# Altium footprint library Connector.PcbLib: 23 footprints (part 1 of 2)
Each footprint in its own frame and in the unit in brackets; x right, y up, seen from the top. Pads: shape width x height; smd on the part's side, far side on the other; paste and mask are expansions set on the pad; w line width, h text height; cw(c..) or ccw(c..) is an arc to the next point about the centre after c.
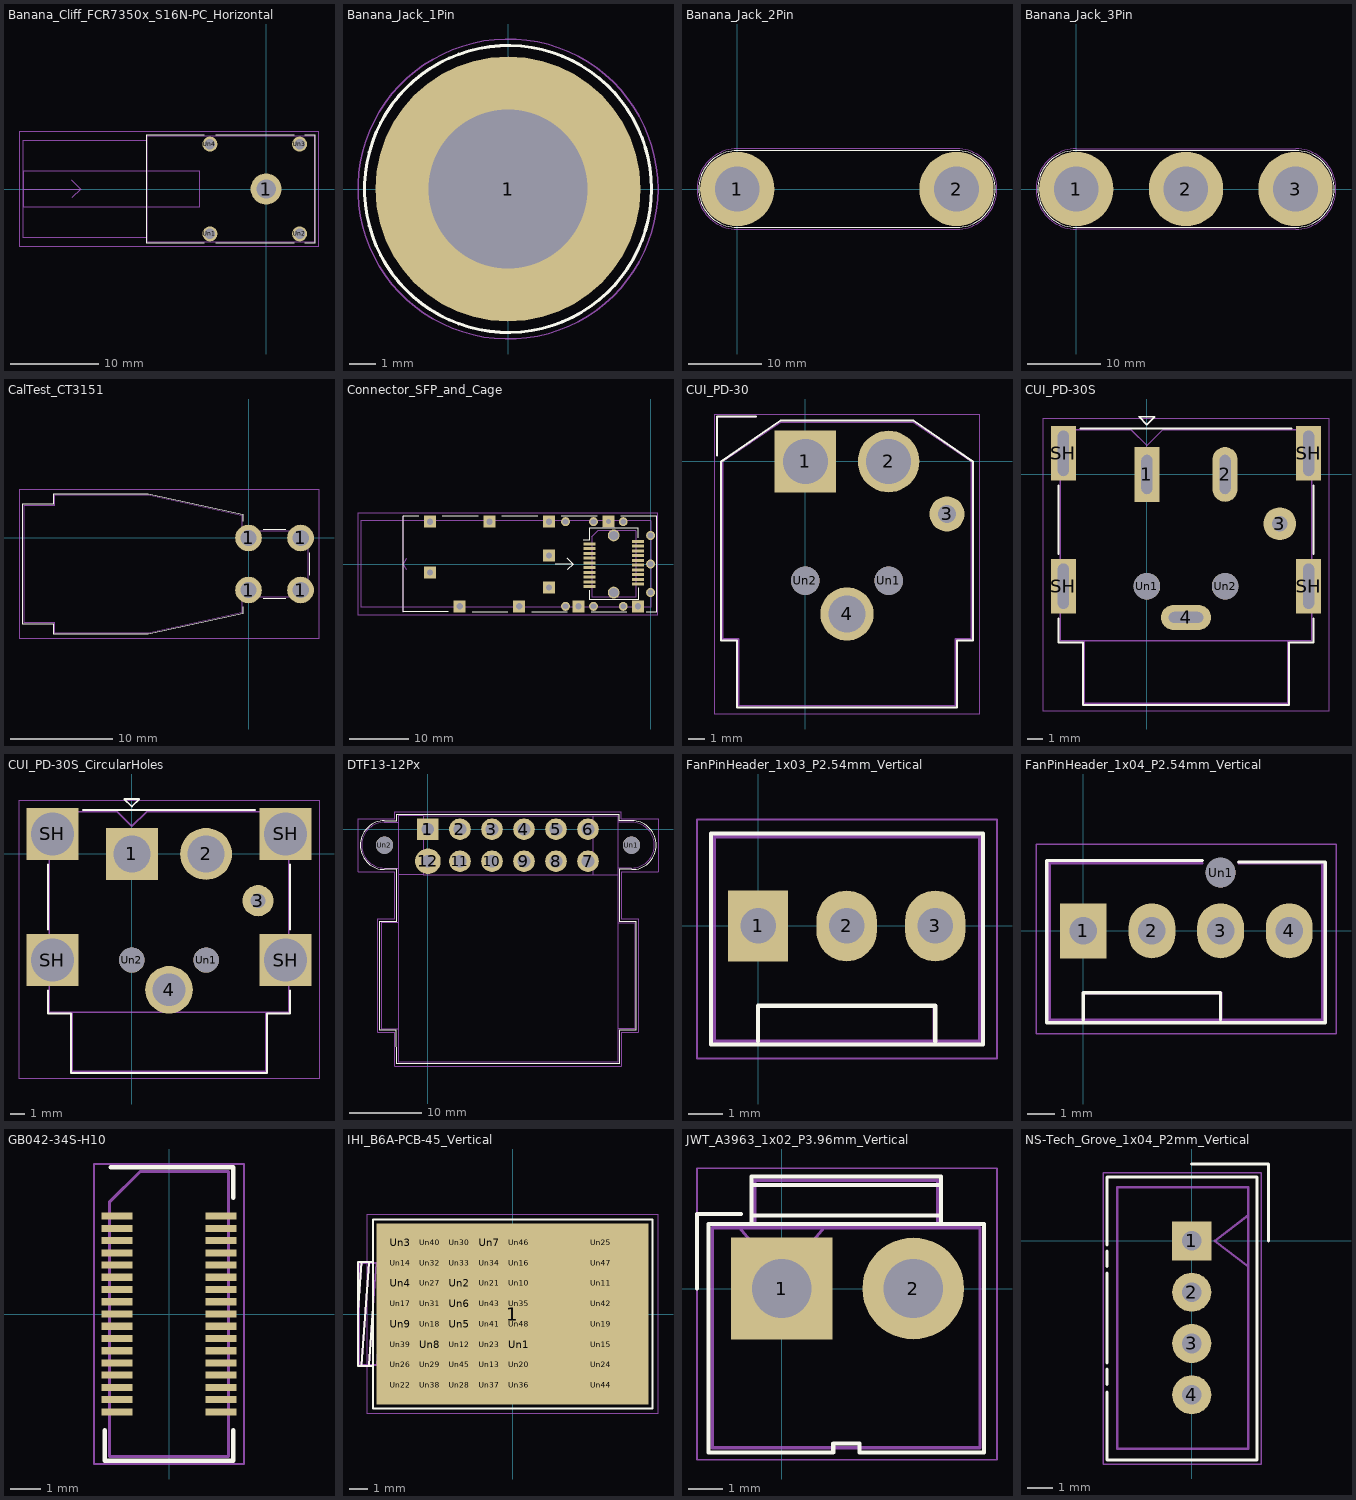
[diagram p0: the footprints below, top view; thin cyan lines are the x and y axes]

## Banana_Cliff_FCR7350x_S16N-PC_Horizontal [mm]
pads (5):
  round 3.5 hole 2.2: 1(0,0)
  round 1.7 hole 1.2: Un1(-6.36,-5.08) Un2(3.8,-5.08) Un3(3.8,5.08) Un4(-6.36,5.08)
F.SilkS:
  lines w0.12: -7,-6.1 -13.6,-6.1 -13.6,6.1 -7,6.1 ; -5.7,-6.1 3.2,-6.1 ; -5.7,6.1 3.2,6.1 ; 4.4,-6.1 5.6,-6.1 5.6,6.1 4.4,6.1
F.CrtYd:
  lines w0.05: -28,-6.5 -28,6.5 6,6.5 6,-6.5 -28,-6.5
F.Fab:
  lines w0.1: -27.5,0 -21,0 ; -22,-1 -21,0 ; -22,1 -21,0 ; -27.5,-5.5 -13.5,-5.5 -13.5,5.5 -27.5,5.5 -27.5,-5.5 ; -27.5,-2 -27.5,2 -7.5,2 -7.5,-2 -27.5,-2 ; -13.5,-6 -13.5,6 5.5,6 5.5,-6 -13.5,-6
  text "'.Designator'" at -4.047,-3.34 h1

## Banana_Jack_1Pin [mm]
pads (1):
  round 10.16 hole 6.1: 1(0,0)
F.SilkS:
  circle w0.12: c0,0 r5.5
F.CrtYd:
  circle w0.05: c0,0 r5.75
F.Fab:
  circle w0.1: c0,0 r4.85
  circle w0.1: c0,0 r2
  text "'.Designator'" at -3.237,-0.672 h0.8

## Banana_Jack_2Pin [mm]
pads (2):
  round 10.16 hole 6.1: 1(0,0) 2(29.97,0)
F.SilkS:
  lines w0.12: 0,-5.25 30,-5.25 ccw(c30,0) 30,5.25 0,5.25 ccw(c0,0) 0,-5.25
F.CrtYd:
  lines w0.05: 0,-5.5 30,-5.5 ccw(c30,0) 30,5.5 0,5.5 ccw(c0,0) 0,-5.5
F.Fab:
  circle w0.1: c0,0 r4.75
  circle w0.1: c0,0 r2
  circle w0.1: c30,0 r2
  circle w0.1: c30,0 r4.75
  text "'.Designator'" at 10.938,-0.84 h1

## Banana_Jack_3Pin [mm]
pads (3):
  round 10.16 hole 6.1: 1(0,0) 2(14.99,0) 3(29.97,0)
F.SilkS:
  lines w0.12: 0,-5.25 30,-5.25 ccw(c30,0) 30,5.25 0,5.25 ccw(c0,0) 0,-5.25
F.CrtYd:
  lines w0.05: 0,-5.5 30,-5.5 ccw(c30,0) 30,5.5 0,5.5 ccw(c0,0) 0,-5.5
F.Fab:
  circle w0.1: c15,0 r2
  circle w0.1: c30,0 r2
  circle w0.1: c0,0 r2
  circle w0.1: c30,0 r4.75
  circle w0.1: c0,0 r4.75
  circle w0.1: c15,0 r4.75
  text "'.Designator'" at 11.753,-0.672 h0.8

## CalTest_CT3151 [mm]
pads (4):
  round 2.6 hole 1.6: 1(0,-5.08) 1(0,0) 1(5.08,-5.08) 1(5.08,0)
F.SilkS:
  lines w0.12: -0.561,-6.703 -0.561,-7.41 -9.79,-9.41 -19.02,-9.41 -19.02,-8.41 -22.02,-8.41 -22.02,3.33 -19.02,3.33 -19.02,4.33 -9.79,4.33 -0.561,2.33 -0.561,1.623 ; 1.417,-5.92 3.653,-5.92 ; 1.417,0.84 3.652,0.84 ; 5.92,-3.656 5.92,-1.425
F.CrtYd:
  lines w0.05: -22.4,-9.79 6.88,-9.79 6.88,4.71 -22.4,4.71 -22.4,-9.79
F.Fab:
  lines w0.1: -21.9,-8.29 -21.9,3.21 -18.9,3.21 -18.9,4.21 -9.79,4.21 -0.68,2.21 -0.68,0.72 5.8,0.72 5.8,-5.8 -0.68,-5.8 -0.68,-7.29 -9.79,-9.29 -18.9,-9.29 -18.9,-8.29 -21.9,-8.29
  text "'.Designator'" at -1.507,-3.38 h1

## Connector_SFP_and_Cage [mm]
pads (42):
  rect 2x0.5 smd: 1(-10.3,3.4) 2(-10.3,2.6) 3(-10.3,1.8) 4(-10.3,1) 5(-10.3,0.2) 6(-10.3,-0.6) 7(-10.3,-1.4) 8(-10.3,-2.2) 9(-10.3,-3) 10(-10.3,-3.8) 11(-2.1,-3.4) 12(-2.1,-2.6) 13(-2.1,-1.8) 14(-2.1,-1) 15(-2.1,-0.2) 16(-2.1,0.6) 17(-2.1,1.4) 18(-2.1,2.2) 19(-2.1,3) 20(-2.1,3.8)
  rect 2x2 hole 1.05: CAGE(-37.1,-1.45) CAGE(-37.1,7.125) CAGE(-32.1,-7.125) CAGE(-27.1,7.125) CAGE(-22.1,-7.125) CAGE(-17.1,-3.95) CAGE(-17.1,1.45) CAGE(-17.1,7.125) CAGE(-12.1,-7.125) CAGE(-2.1,-7.125)
  round 1.5 hole 0.95: CAGE(-14.3,-7.125) CAGE(-14.3,7.125) CAGE(-9.6,-7.125) CAGE(-9.6,7.125) CAGE(-4.6,-7.125) CAGE(-4.6,7.125) CAGE(0,-4.8) CAGE(0,0) CAGE(0,4.8)
  rect 2x2 hole 0.85: CAGE(-7.1,7.125)
  round 2 hole 1.55: Un1(-6.2,-4.8) Un2(-6.2,4.8)
F.SilkS:
  lines w0.12: -39,8 -41.6,8 -41.6,-8 -34,-8 ; -35,8 -29,8 ; -30,-8 -24,-8 ; -25,8 -19,8 ; -20,-8 -14,-8 ; -16,0 -13,0 ; -15,8 -9,8 ; -14,-1 -13,0 ; -14,1 -13,0 ; -11.3,4 -10.3,4 -10.3,6 -2.1,6 -2.1,4.4 ; -10.3,-4.4 -10.3,-6 -2.1,-6 -2.1,-4 ; -10,-8 -4,-8 ; -5,8 1,8 1,-8 -0.7,-8
Dwgs.User:
  lines w0.12: -41.6,-8.125 -41.6,8.125 ; -41,-1 -41.6,0 -41,1
F.CrtYd:
  lines w0.05: -49.2,-8.63 -49.2,8.63 1.25,8.63 1.25,-8.63 -49.2,-8.63
F.Fab:
  lines w0.1: -48.7,-7.25 -48.7,7.25 0,7.25 0,-7.25 -48.7,-7.25 ; -9.9,-5.6 -2.5,-5.6 -2.5,5.6 -8.9,5.6 -9.9,4.6 -9.9,-5.6
  text "'.Designator'" at -10.247,-0.84 h1
Cmts.User:
  text "PCB edge" at -42.183,-3.447 h1
  text "Component and trace keepout" at -38.631,3.883 h1
  text "(except chassis ground)" at -36.329,2.088 h1

## CUI_PD-30 [mm]
pads (6):
  rect 3.7x3.7 hole 2.7: 1(0,0)
  round 3.7 hole 2.7: 2(5,0)
  round 2.1 hole 1.1: 3(8.5,-3.15)
  round 3.2 hole 2.2: 4(2.5,-9.15)
  round 1.7 hole 1.7: Un1(5,-7.15) Un2(0,-7.15)
F.SilkS:
  lines w0.12: -5.29,0.35 -5.29,2.69 -2.95,2.69 ; -5.05,-10.75 -5.05,0 -1.5,2.45 6.5,2.45 10.05,0 10.05,-10.75 9.1,-10.75 9.1,-14.75 -4.1,-14.75 -4.1,-10.75 -5.05,-10.75
F.CrtYd:
  lines w0.05: -5.45,-15.15 10.45,-15.15 10.45,2.85 -5.45,2.85 -5.45,-15.15
F.Fab:
  lines w0.1: -5.29,0.35 -5.29,2.69 -2.95,2.69 ; -4.95,-10.65 -4.95,0 -1.5,2.35 6.5,2.35 9.95,0 9.95,-10.65 9,-10.65 9,-14.65 -4,-14.65 -4,-10.65 -4.95,-10.65
  text "'.Designator'" at -1.547,-6.99 h1

## CUI_PD-30S [mm]
pads (10):
  rect 1.6x3.5 hole 2.5 slot 0.7 at 0 deg: 1(0,0)
  rrect100% 1.6x3.5 hole 2.5 slot 0.7 at 0 deg: 2(5,0)
  round 2.1 hole 1: 3(8.5,-3.15)
  rrect100% 3.2x1.6 hole 0.7 slot 2.2 at 0 deg: 4(2.5,-9.15)
  rect 1.6x3.5 hole 2.9 slot 0.7 at 0 deg: SH(-5.35,-7.15) SH(-5.35,1.35) SH(10.35,-7.15) SH(10.35,1.35)
  round 1.7 hole 1.7: Un1(0,-7.15) Un2(5,-7.15)
F.SilkS:
  lines w0.12: -5.65,-9.2 -5.65,-10.75 -4.1,-10.75 -4.1,-14.75 9.1,-14.75 9.1,-10.75 10.65,-10.75 10.65,-9.2 ; -5.65,-5.1 -5.65,-0.7 ; -4.25,2.95 9.25,2.95 ; 10.65,-5.1 10.65,-0.7 ; -0.5,3.69 0,3.19 0.5,3.69 -0.5,3.69
F.CrtYd:
  lines w0.05: -6.65,-15.15 -6.65,3.6 11.65,3.6 11.65,-15.15 -6.65,-15.15
F.Fab:
  lines w0.1: -4,-10.65 -5.55,-10.65 -5.55,2.85 -1,2.85 0,1.85 1,2.85 10.55,2.85 10.55,-10.65 9,-10.65 ; -4,-10.65 -4,-14.65 9,-14.65 9,-10.65 ; -4,-10.65 9,-10.65
  text "'.Designator'" at -1.547,-6.74 h1

## CUI_PD-30S_CircularHoles [mm]
pads (10):
  rect 3.5x3.5 hole 2.5: 1(0,0)
  round 3.5 hole 2.5: 2(5,0)
  round 2.1 hole 1: 3(8.5,-3.15)
  round 3.2 hole 2.2: 4(2.5,-9.15)
  rect 3.5x3.5 hole 2.9: SH(-5.35,-7.15) SH(-5.35,1.35) SH(10.35,-7.15) SH(10.35,1.35)
  round 1.7 hole 1.7: Un1(5,-7.15) Un2(0,-7.15)
F.SilkS:
  lines w0.12: -5.65,-9.2 -5.65,-10.75 -4.1,-10.75 -4.1,-14.75 9.1,-14.75 9.1,-10.75 10.65,-10.75 10.65,-9.2 ; -5.65,-5.1 -5.65,-0.7 ; -3.3,2.95 8.3,2.95 ; 10.65,-5.1 10.65,-0.7 ; -0.5,3.69 0.5,3.69 0,3.19 -0.5,3.69
F.CrtYd:
  lines w0.05: -7.6,-15.15 -7.6,3.6 12.6,3.6 12.6,-15.15 -7.6,-15.15
F.Fab:
  lines w0.1: -4,-10.65 -5.55,-10.65 -5.55,2.85 -1,2.85 0,1.85 1,2.85 10.55,2.85 10.55,-10.65 9,-10.65 ; -4,-10.65 -4,-14.65 9,-14.65 9,-10.65 ; -4,-10.65 9,-10.65
  text "'.Designator'" at -1.547,-6.74 h1

## DTF13-12Px [mm]
pads (14):
  rect 3x3 hole 1.75: 1(0,0)
  round 3 hole 1.75: 2(4.445,0) 3(8.89,0) 4(13.335,0) 5(17.78,0) 6(22.225,0) 7(22.225,-4.445) 8(17.78,-4.445) 9(13.335,-4.445) 10(8.89,-4.445) 11(4.445,-4.445)
  round 3.556 hole 1.75: 12(0,-4.445)
  round 2.4 hole 2.4: Un1(28.258,-2.21) Un2(-6.032,-2.21)
F.SilkS:
  lines w0.15: -6.033,-5.588 cw(c-6.032,-2.21) -6.032,1.168 ; -6.02,-5.588 -4.343,-5.588 -4.343,-12.751 -6.68,-12.751 -6.68,-27.915 -4.369,-27.915 -4.343,-32.588 26.594,-32.588 26.568,-27.915 28.905,-27.915 28.905,-12.751 26.568,-12.751 26.568,-5.588 28.296,-5.588 ; -6.02,1.168 -4.343,1.168 -4.343,2.108 26.568,2.108 26.568,1.168 28.296,1.168 ; 28.321,-5.588 ccw(c28.321,-2.21) 28.321,1.168
F.CrtYd:
  lines w0.05: -9.71,-5.88 -9.71,1.46 -4.63,1.46 -4.63,2.4 26.85,2.4 26.85,1.47 31.94,1.47 31.94,-5.88 26.85,-5.88 26.85,-12.45 29.2,-12.45 29.2,-28.19 26.85,-28.19 26.85,-32.88 -4.63,-32.88 -4.63,-28.19 -6.98,-28.19 -6.98,-12.45 -4.63,-12.45 -4.63,-5.88 -9.71,-5.88
F.Fab:
  lines w0.12: -6.032,0.965 -4.127,0.965 ; -5.999,0.965 ccw(c-6.032,-2.21) -6.033,-5.385 -4.127,-5.385 ; -4.127,-27.686 -6.477,-27.686 -6.477,-12.954 -4.127,-12.954 ; -4.127,-6.35 -0.635,-6.35 ; 26.352,-27.686 28.702,-27.686 28.702,-12.954 26.352,-12.954 ; 26.352,-6.35 22.86,-6.35 ; 26.352,-5.385 28.258,-5.385 ccw(c28.258,-2.21) 28.258,0.965 26.352,0.965 ; -0.635,-6.35 -0.635,1.905 ; -0.635,-6.35 22.86,-6.35 ; -0.635,1.905 -4.127,1.905 -4.127,-32.385 26.352,-32.385 26.352,1.905 22.86,1.905 ; -0.635,1.905 22.86,1.905 ; 22.86,-6.35 22.86,1.905
  text "'.Designator'" at 7.653,-19.74 h1

## FanPinHeader_1x03_P2.54mm_Vertical [mm]
pads (3):
  rect 1.73x2.03 hole 1.02: 1(0,0)
  rrect100% 1.73x2.03 hole 1.02: 2(2.54,0) 3(5.08,0)
F.SilkS:
  lines w0.12: 0,-3.3 0,-2.29 5.08,-2.29 5.08,-3.3 ; -1.35,-3.4 -1.35,2.65 6.45,2.65 6.45,-3.4 -1.35,-3.4
F.CrtYd:
  lines w0.05: -1.75,-3.8 -1.75,3.05 6.85,3.05 6.85,-3.8 -1.75,-3.8
F.Fab:
  lines w0.1: 0,-3.3 0,-2.3 5.05,-2.3 5.05,-3.3 ; -1.25,-3.3 6.35,-3.3 6.35,2.55 -1.25,2.55 -1.25,-3.3
  text "'.Designator'" at -1.597,-2.64 h1

## FanPinHeader_1x04_P2.54mm_Vertical [mm]
pads (5):
  rect 1.73x2.03 hole 1.02: 1(0,0)
  rrect100% 1.73x2.03 hole 1.02: 2(2.54,0) 3(5.08,0) 4(7.62,0)
  round 1.1 hole 1.1: Un1(5.08,2.16)
F.SilkS:
  lines w0.12: 0,-3.3 0,-2.29 5.08,-2.29 5.08,-3.3 ; 4.4,2.6 -1.35,2.6 -1.35,-3.4 8.95,-3.4 8.95,2.55 5.75,2.55
F.CrtYd:
  lines w0.05: -1.75,-3.8 9.35,-3.8 9.35,3.2 -1.75,3.2 -1.75,-3.8
F.Fab:
  lines w0.1: 0,-3.3 0,-2.3 5.1,-2.3 5.1,-3.3 ; 4.4,2.5 -1.25,2.5 -1.25,-3.3 -1.2,-3.3 8.85,-3.3 8.85,2.5 5.75,2.5
  text "'.Designator'" at -2.197,0.91 h1

## GB042-34S-H10 [mm]
pads (34):
  rect 1x0.23 smd: 1(-1.7,3.2) 2(-1.7,2.8) 3(-1.7,2.4) 4(-1.7,2) 5(-1.7,1.6) 6(-1.7,1.2) 7(-1.7,0.8) 8(-1.7,0.4) 9(-1.7,0) 10(-1.7,-0.4) 11(-1.7,-0.8) 12(-1.7,-1.2) 13(-1.7,-1.6) 14(-1.7,-2) 15(-1.7,-2.4) 16(-1.7,-2.8) 17(-1.7,-3.2) 18(1.7,-3.2) 19(1.7,-2.8) 20(1.7,-2.4) 21(1.7,-2) 22(1.7,-1.6) 23(1.7,-1.2) 24(1.7,-0.8) 25(1.7,-0.4) 26(1.7,0) 27(1.7,0.4) 28(1.7,0.8) 29(1.7,1.2) 30(1.7,1.6) 31(1.7,2) 32(1.7,2.4) 33(1.7,2.8) 34(1.7,3.2)
F.SilkS:
  lines w0.15: -2.1,-3.8 -2.1,-4.8 2.1,-4.8 2.1,-3.8 ; -1.9,4.8 2.1,4.8 2.1,3.8
F.CrtYd:
  lines w0.05: -2.45,-4.9 -2.45,4.9 2.45,4.9 2.45,-4.9 -2.45,-4.9
F.Fab:
  lines w0.1: -1.95,-4.65 1.95,-4.65 1.95,4.65 -0.95,4.65 -1.95,3.65 -1.95,-4.65
  text "'.Designator'" at -4.047,4.71 h1

## IHI_B6A-PCB-45_Vertical [mm]
pads (49):
  rect 14.7x9.8 smd: 1(0,0)
  rect 1.3x0.8 on Top Paste: Un1(0.35,-1.65) Un2(-2.85,1.65) Un3(-6.05,3.85) Un4(-6.05,1.65) Un5(-2.85,-0.55) Un6(-2.85,0.55) Un7(-1.25,3.85) Un8(-4.45,-1.65) Un9(-6.05,-0.55) Un10(0.35,1.65) Un11(4.78,1.65) Un12(-2.85,-1.65) Un13(-1.25,-2.75) Un14(-6.05,2.75) Un15(4.78,-1.65) Un16(0.35,2.75) Un17(-6.05,0.55) Un18(-4.45,-0.55) Un19(4.78,-0.55) Un20(0.35,-2.75) Un21(-1.25,1.65) Un22(-6.05,-3.85) Un23(-1.25,-1.65) Un24(4.78,-2.75) Un25(4.78,3.85) Un26(-6.05,-2.75) Un27(-4.45,1.65) Un28(-2.85,-3.85) Un29(-4.45,-2.75) Un30(-2.85,3.85) Un31(-4.45,0.55) Un32(-4.45,2.75) Un33(-2.85,2.75) Un34(-1.25,2.75) Un35(0.35,0.55) Un36(0.35,-3.85) Un37(-1.25,-3.85) Un38(-4.45,-3.85) Un39(-6.05,-1.65) Un40(-4.45,3.85) Un41(-1.25,-0.55) Un42(4.78,0.55) Un43(-1.25,0.55) Un44(4.78,-3.85) Un45(-2.85,-2.75) Un46(0.35,3.85) Un47(4.78,2.75) Un48(0.35,-0.55)
F.SilkS:
  lines w0.12: -8.36,0.175 -8.168,2.81 ; -8.173,-2.75 -7.773,2.75 ; -7.773,-2.75 -7.55,0.35 ; -7.55,-2.81 -8.36,-2.81 -8.36,2.81 -7.55,2.81 ; -7.55,-5.1 7.55,-5.1 7.55,5.1 -7.55,5.1 -7.55,-5.1
F.CrtYd:
  lines w0.05: -7.85,-5.4 7.85,-5.4 7.85,5.4 -7.85,5.4 -7.85,-5.4
F.Fab:
  lines w0.1: -8.3,1 -8.173,2.75 ; -8.173,-2.75 -7.773,2.75 ; -7.773,-2.75 -7.373,2.75 ; -7.35,-2.75 -6.95,2.75 ; -6.95,-2.75 -6.73,-0.275 ; -6.731,-2.75 -8.3,-2.75 -8.3,2.75 -6.731,2.75 ; 1.054,-4.267 1.054,4.267 ; 4.062,-4.267 4.062,4.267 ; 5.498,-4.267 5.498,4.267 ; -6.731,-4.267 -6.731,4.267 6.731,4.267 6.731,-4.267 -6.731,-4.267
  text "'.Designator'" at -3.997,4.91 h1

## JWT_A3963_1x02_P3.96mm_Vertical [mm]
pads (2):
  rect 3x3 hole 1.75: 1(0,0)
  round 3 hole 1.75: 2(3.88,0)
F.SilkS:
  lines w0.12: -2.5,0 -2.5,2.2 -1.2,2.2 ; -0.89,1.91 -0.89,3.3 4.7,3.3 4.7,1.91 ; -0.89,2.16 4.7,2.16 ; -0.89,3.05 4.7,3.05 ; -2.16,-4.83 -2.16,0 -2.16,1.91 5.97,1.91 5.97,0 5.97,-4.83 2.29,-4.83 2.29,-4.57 1.52,-4.57 1.52,-4.83 -2.16,-4.83
F.CrtYd:
  lines w0.05: -2.5,-5.05 -2.5,3.55 6.35,3.55 6.35,-5.05 -2.5,-5.05
F.Fab:
  lines w0.1: -1.25,1.8 0,0.3 1.25,1.8 ; -0.8,1.8 -0.8,3.2 4.6,3.2 4.6,1.8 ; -2.05,-4.7 -2.05,1.8 5.85,1.8 5.85,-4.7 -2.05,-4.7
  text "'.Designator'" at -1.847,-4.54 h1

## NS-Tech_Grove_1x04_P2mm_Vertical [mil]
pads (4):
  rect 60x60 hole 30: 1(0,0)
  round 60 hole 30: 2(0,-78.74) 3(0,-157.48) 4(0,-236.22)
F.SilkS:
  lines w4.72: -129.92,-232.28 -129.92,-336.61 100.39,-336.61 100.39,98.43 -129.92,98.43 -129.92,-5.91 ; -129.92,-220.47 -129.92,-196.85 ; -129.92,-187.01 -129.92,-49.21 ; -129.92,-39.37 -129.92,-15.75 ; 0,118.11 118.11,118.11 118.11,0
F.CrtYd:
  lines w1.97: -135.83,-342.52 -135.83,104.33 106.3,104.33 106.3,-342.52 -135.83,-342.52
F.Fab:
  lines w3.94: 86.61,-39.37 35.43,0 86.61,39.37 ; -114.17,-318.9 86.61,-318.9 86.61,82.68 -114.17,82.68 -114.17,-318.9
  text "'.Designator'" at -45.66,-238.06 h39.37